# EAGLE library part MD09A (library Schrittmotortreiber - MD09A)
Name des Bauteiles: Schrittmotortreiber A4988 Daten:mit Spannungsregler, auf Platine 1183, LIPOLY: PO-1183 Artikelnummer:#k070291 (für Info´s bitte an Hm / Gz / Fa wenden). Datenblatt:
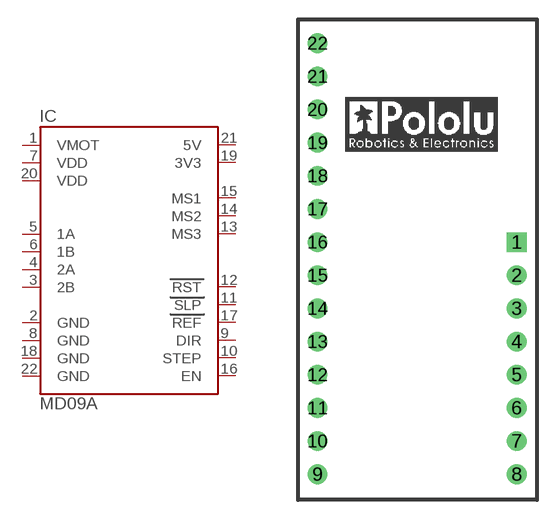
[diagram p0: symbol with the pads of MD09A; footprint MD09A]

Designator prefix IC

## MD09ATHT  [MD09A]
1  VMOT
2  GND
3  2B
4  2A
5  1A
6  1B
7  VDD
8  GND
9  DIR
10  STEP
11  SLP
12  RST
13  MS3
14  MS2
15  MS1
16  EN
17  REF
18  GND
19  3V3
20  VDD
21  5V
22  GND

## Footprint MD09A (pad centres in mm)
drill 1 square: 1 16.51,19.75
drill 1: 2 16.51,17.21; 3 16.51,14.67; 4 16.51,12.13; 5 16.51,9.59; 6 16.51,7.05; 7 16.51,4.51; 8 16.51,1.97; 9 1.27,1.97; 10 1.27,4.51; 11 1.27,7.05; 12 1.27,9.59; 13 1.27,12.13; 14 1.27,14.67; 15 1.27,17.21; 16 1.27,19.75; 17 1.27,22.29; 18 1.27,24.83; 19 1.27,27.37; 20 1.27,29.91; 21 1.27,32.45; 22 1.27,34.99